# Altium schematic symbol library GSD1.SchLib: 1 symbol
Pins are listed as number, name and electrical type; pins without a type are passive.

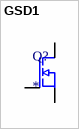
[diagram p0: symbol GSD1]

## GSD1
designator Q?
pins: 1 G, 2 S, 3 D